# Altium integrated library SMD-TRANSISTORS-NPN-25V-500MW_SOT-23_.IntLib: 1 symbol
Pins are listed as number, name and electrical type; pins without a type are passive.

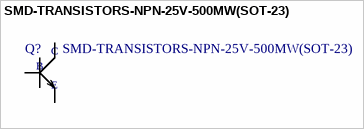
[diagram p0: symbol SMD-TRANSISTORS-NPN-25V-500MW(SOT-23)]

## SMD-TRANSISTORS-NPN-25V-500MW(SOT-23)
designator Q?
MF: Recom Power; MP: S8050; Package: SMD-8 Samsung; Price: None; SnapEDA_Link: https://www.snapeda.com/parts/S8050/Recom%20Power/view-part/?ref=snap; Availability: Unavailable; Value: *
footprint *SOT-23
pins: 1 B, 2 E, 3 C